# EAGLE library part STM32F4-64 (library Bits_library_eagle)
STM32F4, 64 pin package According to STM32F40x datasheet, compatible with STM32F4xx, STM32F2xx. Also compatible with STM32F10x, if VCAP1 and VCAP2 are connected directly to VSS.
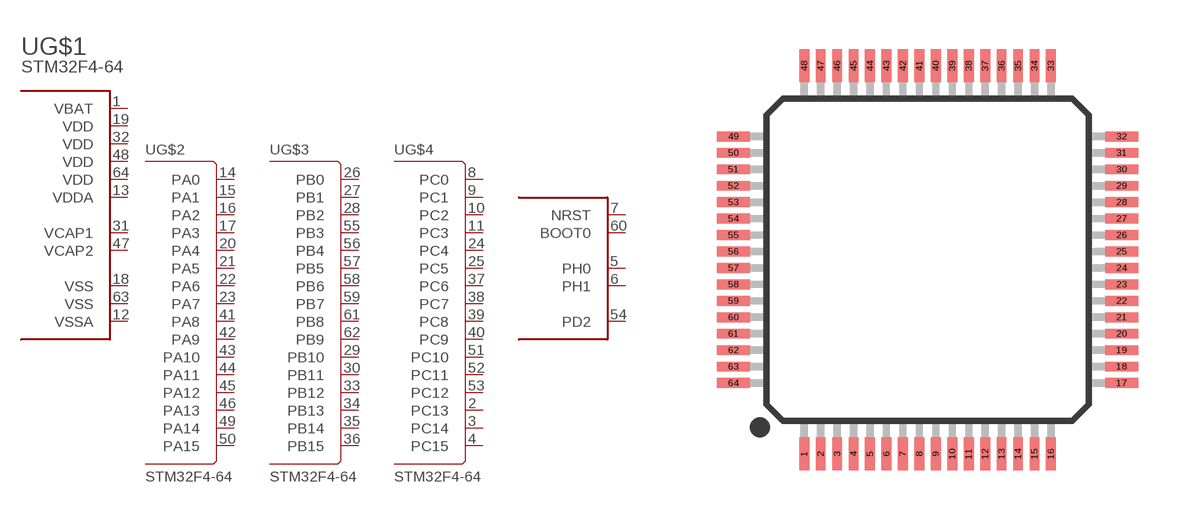
[diagram p47: symbol with the pads of SQFP-S-10X10-64; footprint SQFP-S-10X10-64]

Designator prefix U; gates G$1=STM32-SUPPLY-64 G$2=STM32-PORTA G$3=STM32-PORTB G$4=STM32-PORTC G$5=STM32-MISC-64

## STM32F4-64  [SQFP-S-10X10-64]
1  G$1:VBAT  pwr
2  G$4:PC13
3  G$4:PC14
4  G$4:PC15
5  G$5:PH0
6  G$5:PH1
7  G$5:NRST
8  G$4:PC0
9  G$4:PC1
10  G$4:PC2
11  G$4:PC3
12  G$1:VSSA  pwr
13  G$1:VDDA  pwr
14  G$2:PA0
15  G$2:PA1
16  G$2:PA2
17  G$2:PA3
18  G$1:VSS  pwr
19  G$1:VDD  pwr
20  G$2:PA4
21  G$2:PA5
22  G$2:PA6
23  G$2:PA7
24  G$4:PC4
25  G$4:PC5
26  G$3:PB0
27  G$3:PB1
28  G$3:PB2
29  G$3:PB10
30  G$3:PB11
31  G$1:VCAP1  pas
32  G$1:VDD  pwr
33  G$3:PB12
34  G$3:PB13
35  G$3:PB14
36  G$3:PB15
37  G$4:PC6
38  G$4:PC7
39  G$4:PC8
40  G$4:PC9
41  G$2:PA8
42  G$2:PA9
43  G$2:PA10
44  G$2:PA11
45  G$2:PA12
46  G$2:PA13
47  G$1:VCAP2  pas
48  G$1:VDD  pwr
49  G$2:PA14
50  G$2:PA15
51  G$4:PC10
52  G$4:PC11
53  G$4:PC12
54  G$5:PD2
55  G$3:PB3
56  G$3:PB4
57  G$3:PB5
58  G$3:PB6
59  G$3:PB7
60  G$5:BOOT0
61  G$3:PB8
62  G$3:PB9
63  G$1:VSS  pwr
64  G$1:VDD  pwr

## Footprint SQFP-S-10X10-64 (pad centres in mm)
QFP64 shrink quad flat pack, square
smd 0.3 x 1: 1 -3.75,-5.9; 2 -3.25,-5.9; 3 -2.75,-5.9; 4 -2.25,-5.9; 5 -1.75,-5.9; 6 -1.25,-5.9; 7 -0.75,-5.9; 8 -0.25,-5.9; 9 0.25,-5.9; 10 0.75,-5.9; 11 1.25,-5.9; 12 1.75,-5.9; 13 2.25,-5.9; 14 2.75,-5.9; 15 3.25,-5.9; 16 3.75,-5.9; 33 3.75,5.9; 34 3.25,5.9; 35 2.75,5.9; 36 2.25,5.9; 37 1.75,5.9; 38 1.25,5.9; 39 0.75,5.9; 40 0.25,5.9; 41 -0.25,5.9; 42 -0.75,5.9; 43 -1.25,5.9; 44 -1.75,5.9; 45 -2.25,5.9; 46 -2.75,5.9; 47 -3.25,5.9; 48 -3.75,5.9
smd 1 x 0.3: 17 5.9,-3.75; 18 5.9,-3.25; 19 5.9,-2.75; 20 5.9,-2.25; 21 5.9,-1.75; 22 5.9,-1.25; 23 5.9,-0.75; 24 5.9,-0.25; 25 5.9,0.25; 26 5.9,0.75; 27 5.9,1.25; 28 5.9,1.75; 29 5.9,2.25; 30 5.9,2.75; 31 5.9,3.25; 32 5.9,3.75; 49 -5.9,3.75; 50 -5.9,3.25; 51 -5.9,2.75; 52 -5.9,2.25; 53 -5.9,1.75; 54 -5.9,1.25; 55 -5.9,0.75; 56 -5.9,0.25; 57 -5.9,-0.25; 58 -5.9,-0.75; 59 -5.9,-1.25; 60 -5.9,-1.75; 61 -5.9,-2.25; 62 -5.9,-2.75; 63 -5.9,-3.25; 64 -5.9,-3.75